# EAGLE library part 2450FB15L0001 (library rocket)
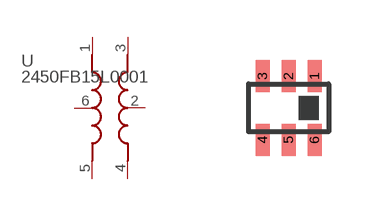
[diagram p2: symbol with the pads of 2450FB15L0001; footprint 2450FB15L0001]

Designator prefix -

## 2450FB15L0001  [2450FB15L0001]
1  UBAL
2  RFGND
3  BAL
4  BAL1
5  GND0
6  GND1

## Footprint 2450FB15L0001 (pad centres in mm)
smd 0.35 x 0.8: 1 0.15,0.8; 2 -0.5,0.8; 3 -1.15,0.8; 4 -1.15,-0.8; 5 -0.5,-0.8; 6 0.15,-0.8